# Altium integrated library 1755736.IntLib: 1 symbol
Pins are listed as number, name and electrical type; pins without a type are passive.

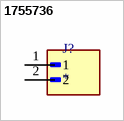
[diagram p0: symbol 1755736]

## 1755736
designator J?
MP: 1755736; Package: None; Price: None; Value: *; Availability: Unavailable
footprint PHOENIX_1755736
pins: 1, 2